# Altium schematic symbol library RAC05-3.3SK.SchLib: 1 symbol
Pins are listed as number, name and electrical type; pins without a type are passive.

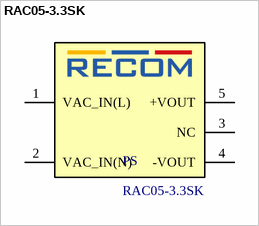
[diagram p0: symbol RAC05-3.3SK]

## RAC05-3.3SK
designator PS
5W AC/DC-Converter 'POWERLINE' 1x1 4kV reg; MF: Recom Power; Value: *; Package: DIP-5 Recom Power; MP: RAC05-3.3SK; Price: None; SnapEDA_Link: https://www.snapeda.com/parts/RAC05-3.3SK/Recom%20Power/view-part/2834355/?ref=snap; Availability: Unavailable
footprint CONV_RAC05-3.3SK
pins: 1 VAC_IN(L), 2 VAC_IN(N), 3 NC, 4 -VOUT, 5 +VOUT